# Altium footprint library Sensor.PcbLib: 5 footprints
Each footprint in its own frame and in the unit in brackets; x right, y up, seen from the top. Pads: shape width x height; smd on the part's side, far side on the other; paste and mask are expansions set on the pad; w line width, h text height; cw(c..) or ccw(c..) is an arc to the next point about the centre after c.
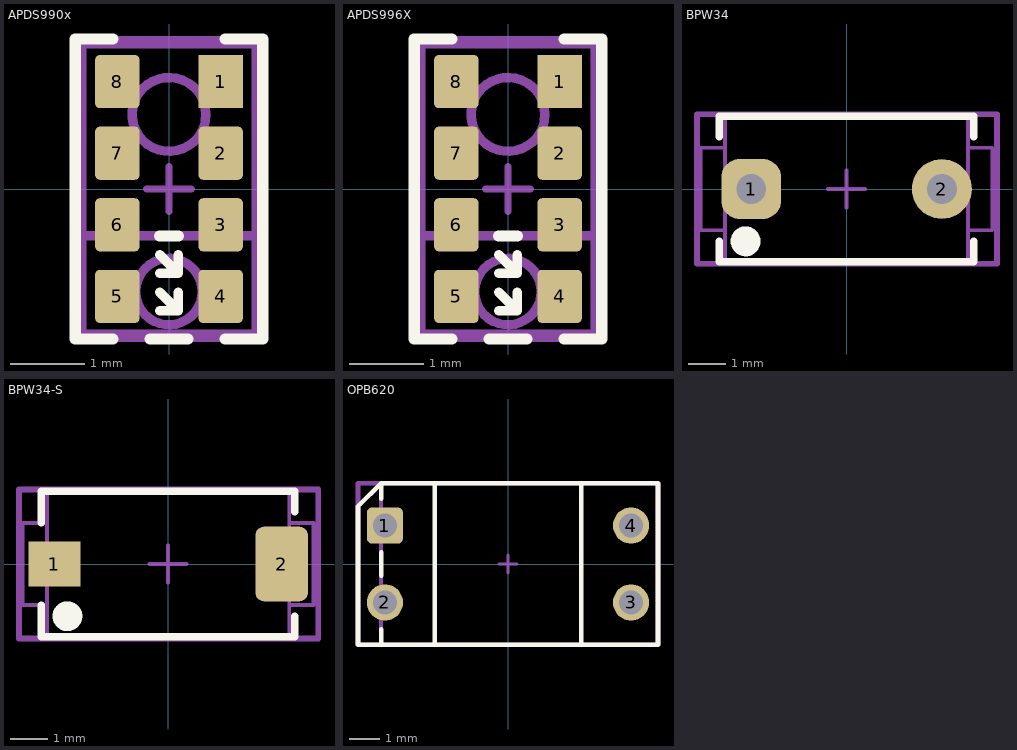
[diagram p0: the footprints below, top view; thin cyan lines are the x and y axes]

## APDS990x [mm]
pads (8):
  rect 0.6x0.72 smd: 1(0.7,1.455)
  rrect20% 0.6x0.72 smd: 2(0.7,0.485) 3(0.7,-0.485) 4(0.7,-1.455) 5(-0.7,-1.455) 6(-0.7,-0.485) 7(-0.7,0.485) 8(-0.7,1.455)
Top Overlay:
  lines w0.127: -0.127,-1.651 0.127,-1.651 ; -0.127,-1.397 0.127,-1.651 ; -0.127,-1.143 0.127,-1.143 ; -0.127,-0.889 0.127,-1.143 ; 0.127,-1.397 0.127,-1.651 ; 0.127,-0.889 0.127,-1.143
  lines w0.15: -0.762,-2.032 -1.27,-2.032 -1.27,2.032 -0.762,2.032 ; -0.254,-2.032 0.254,-2.032 ; -0.127,-0.635 0.127,-0.635 ; 0.762,-2.032 1.27,-2.032 1.27,2.032 0.762,2.032
Mechanical 13:
  circle w0.127: c0,-1.39 r0.45
  circle w0.127: c0,1.01 r0.5
  lines w0.127: -1.18,-0.635 1.18,-0.635 ; -1.18,-1.97 -1.18,1.97 1.18,1.97 1.18,-1.97 -1.18,-1.97
Mechanical 15:
  lines w0.1: -0.3,0 0.3,0 ; 0,-0.3 0,0.3
  lines w0.15: -1.2,-2 -1.2,2 1.2,2 1.2,-2 -1.2,-2
Mechanical 17 (Mech17):
  text ".Designator" at -0.4,-0.2 h1
3D body: height 1.55, standoff 1.5, extent -0.449,-1.839 0.449,-0.941
3D body: height 1.55, standoff 1.5, extent -0.499,0.511 0.499,1.509
3D body: height 1.5, standoff 1.35, extent -1.179,-0.634 1.179,1.969
3D body: height 1.5, standoff 1.35, extent -1.179,-1.969 1.179,-0.636
3D body: height 1.35, standoff 0, extent -1.244,-2.034 1.244,2.034

## APDS996X [mm]
height 1.35
pads (8):
  rect 0.6x0.72 smd: 1(0.7,1.455)
  rrect20% 0.6x0.72 smd: 2(0.7,0.485) 3(0.7,-0.485) 4(0.7,-1.455) 5(-0.7,-1.455) 6(-0.7,-0.485) 7(-0.7,0.485) 8(-0.7,1.455)
Top Overlay:
  lines w0.127: -0.127,-1.651 0.127,-1.651 ; -0.127,-1.397 0.127,-1.651 ; -0.127,-1.143 0.127,-1.143 ; -0.127,-0.889 0.127,-1.143 ; 0.127,-1.397 0.127,-1.651 ; 0.127,-0.889 0.127,-1.143
  lines w0.15: -0.762,-2.032 -1.27,-2.032 -1.27,2.032 -0.762,2.032 ; -0.254,-2.032 0.254,-2.032 ; -0.127,-0.635 0.127,-0.635 ; 0.762,-2.032 1.27,-2.032 1.27,2.032 0.762,2.032
Mechanical 13:
  circle w0.127: c0,-1.39 r0.45
  circle w0.127: c0,1.01 r0.5
  lines w0.127: -1.18,-0.635 1.18,-0.635 ; -1.18,-1.97 -1.18,1.97 1.18,1.97 1.18,-1.97 -1.18,-1.97
Mechanical 15:
  lines w0.1: -0.3,0 0.3,0 ; 0,-0.3 0,0.3
  lines w0.15: -1.2,-2 -1.2,2 1.2,2 1.2,-2 -1.2,-2
Mechanical 17 (Mech17):
  text ".Designator" at -0.4,-0.2 h1
3D body "APDS-9960.step": height 1.34, standoff -0.01, extent -1.18,-1.97 1.18,1.97

## BPW34 [mm] "BPW34"
height 1.3
pads (2):
  rrect60% 1.6x1.6 hole 0.8: 1(-2.55,0)
  round 1.6 hole 0.8: 2(2.55,0)
Top Overlay:
  circle w0.4: c-2.7,-1.4 r0.2
  lines w0.2: -3.4,-1.4 -3.4,-1.95 3.4,-1.95 3.4,-1.4 ; -3.4,1.4 -3.4,1.95 3.4,1.95 3.4,1.4
Mechanical 13:
  lines w0.1: -3.25,-1.1 -3.9,-1.1 -3.9,1.1 -3.25,1.1 ; 3.25,-1.1 3.9,-1.1 3.9,1.1 3.25,1.1 ; -3.25,-1.95 -3.25,1.95 3.25,1.95 3.25,-1.95 -3.25,-1.95
Mechanical 15:
  lines w0.1: -0.5,0 0.5,0 ; 0,-0.5 0,0.5
  lines w0.15: -4,-2 -4,2 4.025,2 4.025,-2 -4,-2
Mechanical 17 (Mech17):
  text ".Designator" at -0.4,-0.2 h1
3D body "BPW_34_FAS_150713_geometry.STEP": height 1.2, standoff 0, extent -3.25,-1.95 3.25,1.95

## BPW34-S [mm] "BPW34-S"
height 1.3
pads (2):
  rect 1.4x1.2 smd: 1(-3.05,0)
  rrect30% 1.4x2 smd: 2(3.05,0)
Top Overlay:
  circle w0.4: c-2.7,-1.4 r0.2
  lines w0.2: -3.4,-1.1 -3.4,-1.95 3.4,-1.95 3.4,-1.4 ; -3.4,1.1 -3.4,1.95 3.4,1.95 3.4,1.4
Mechanical 13:
  lines w0.1: -3.25,-1.1 -3.9,-1.1 -3.9,1.1 -3.25,1.1 ; 3.25,-1.1 3.9,-1.1 3.9,1.1 3.25,1.1 ; -3.25,-1.95 3.25,-1.95 3.25,1.95 -3.25,1.95 -3.25,-1.95
Mechanical 15:
  lines w0.1: -0.5,0 0.5,0 ; 0,-0.5 0,0.5
  lines w0.15: -4,-2 4.025,-2 4.025,2 -4,2 -4,-2
Mechanical 17 (Mech17):
  text ".Designator" at -0.4,-0.2 h1
3D body "BPW_34_S_100414_geometry.STEP": height 1.2, standoff 0, extent -3.25,-1.95 3.25,1.95

## OPB620 [mm]
height 9.27
pads (4):
  rrect30% 1.2x1.2 hole 0.8: 1(-4.064,1.27)
  round 1.2 hole 0.8: 2(-4.064,-1.27) 3(4.064,-1.27) 4(4.064,1.27)
Top Overlay:
  lines w0.15: -4.191,-2.667 -4.191,-2.159 ; -4.191,-0.381 -4.191,0.381 ; -4.191,2.159 -4.191,2.667 ; -2.413,-2.667 -2.413,2.667 ; 2.413,-2.667 2.413,2.667 ; -4.191,2.667 -4.953,1.905 -4.953,-2.667 4.953,-2.667 4.953,2.667 -4.191,2.667
Mechanical 13:
  lines w0.127: -4.191,-2.667 -4.191,2.667 ; -2.413,-2.667 -2.413,2.667 ; 2.413,-2.667 2.413,2.667 ; -4.191,2.667 4.953,2.667 4.953,-2.667 -4.953,-2.667 -4.953,1.905 -4.191,2.667
Mechanical 15:
  lines w0.1: -0.3,0 0.3,0 ; 0,-0.3 0,0.3
  lines w0.15: -4.953,-2.667 4.953,-2.667 4.953,2.667 -4.953,2.667 -4.953,-2.667
Mechanical 17 (Mech17):
  text ".Designator" at -0.4,-0.2 h1
3D body "OPB620_v2.STEP": height 9.37, standoff -2.44, extent -4.955,-2.663 4.955,2.667